# Altium schematic symbol library FERRITE BEADS.SchLib: 5 symbols
Pins are listed as number, name and electrical type; pins without a type are passive.

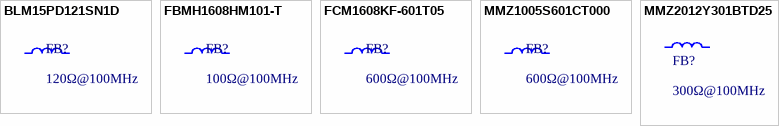
[diagram p0: symbols BLM15PD121SN1D to MMZ2012Y301BTD25]

## BLM15PD121SN1D
designator FB?, comment 120Ω@100MHz
90mΩ ±25% 120Ω@100MHz 0402 Ferrite Beads ROHS; Manufacturer: muRata; Mfr.Part #: BLM15PD121SN1D; Package: 0402; LCSC Part #: C76891
footprint CAP-0402
pins: 1, 2

## FBMH1608HM101-T
designator FB?, comment 100Ω@100MHz
20mΩ ±25% 100Ω@100MHz 0603 Ferrite Beads ROHS; Manufacturer: Taiyo Yuden; Mfr.Part #: FBMH1608HM101-T; Package: 0603; LCSC Part #: C515366
footprint CAP-0603
pins: 1, 2

## FCM1608KF-601T05
designator FB?, comment 600Ω@100MHz
500mΩ ±25% 600Ω@100MHz 0603 Ferrite Beads ROHS; Manufacturer: TAI-TECH; Mfr.Part #: FCM1608KF-601T05; Package: 0603; LCSC Part #: C133937
footprint CAP-0603
pins: 1, 2

## MMZ1005S601CT000
designator FB?, comment 600Ω@100MHz
520mΩ ±25% 600Ω@100MHz 0402 Ferrite Beads and Chips ROHS; Manufacturer: TDK; Mfr.Part #: MMZ1005S601CT000; Package: 0402; LCSC Part #: C76804
footprint CAP-0402
pins: 1, 2

## MMZ2012Y301BTD25
designator FB?, comment 300Ω@100MHz
150mΩ ±25% 300Ω@100MHz 0805 Ferrite Beads ROHS; Manufacturer: TDK; Mfr.Part #: MMZ2012Y301BTD25; Package: 0805; LCSC Part #: C2661775
footprint CAP-0805
pins: 1, 2